# Altium schematic symbol library Kintex_SDR.SchLib: 48 symbols
Pins are listed as number, name and electrical type; pins without a type are passive.

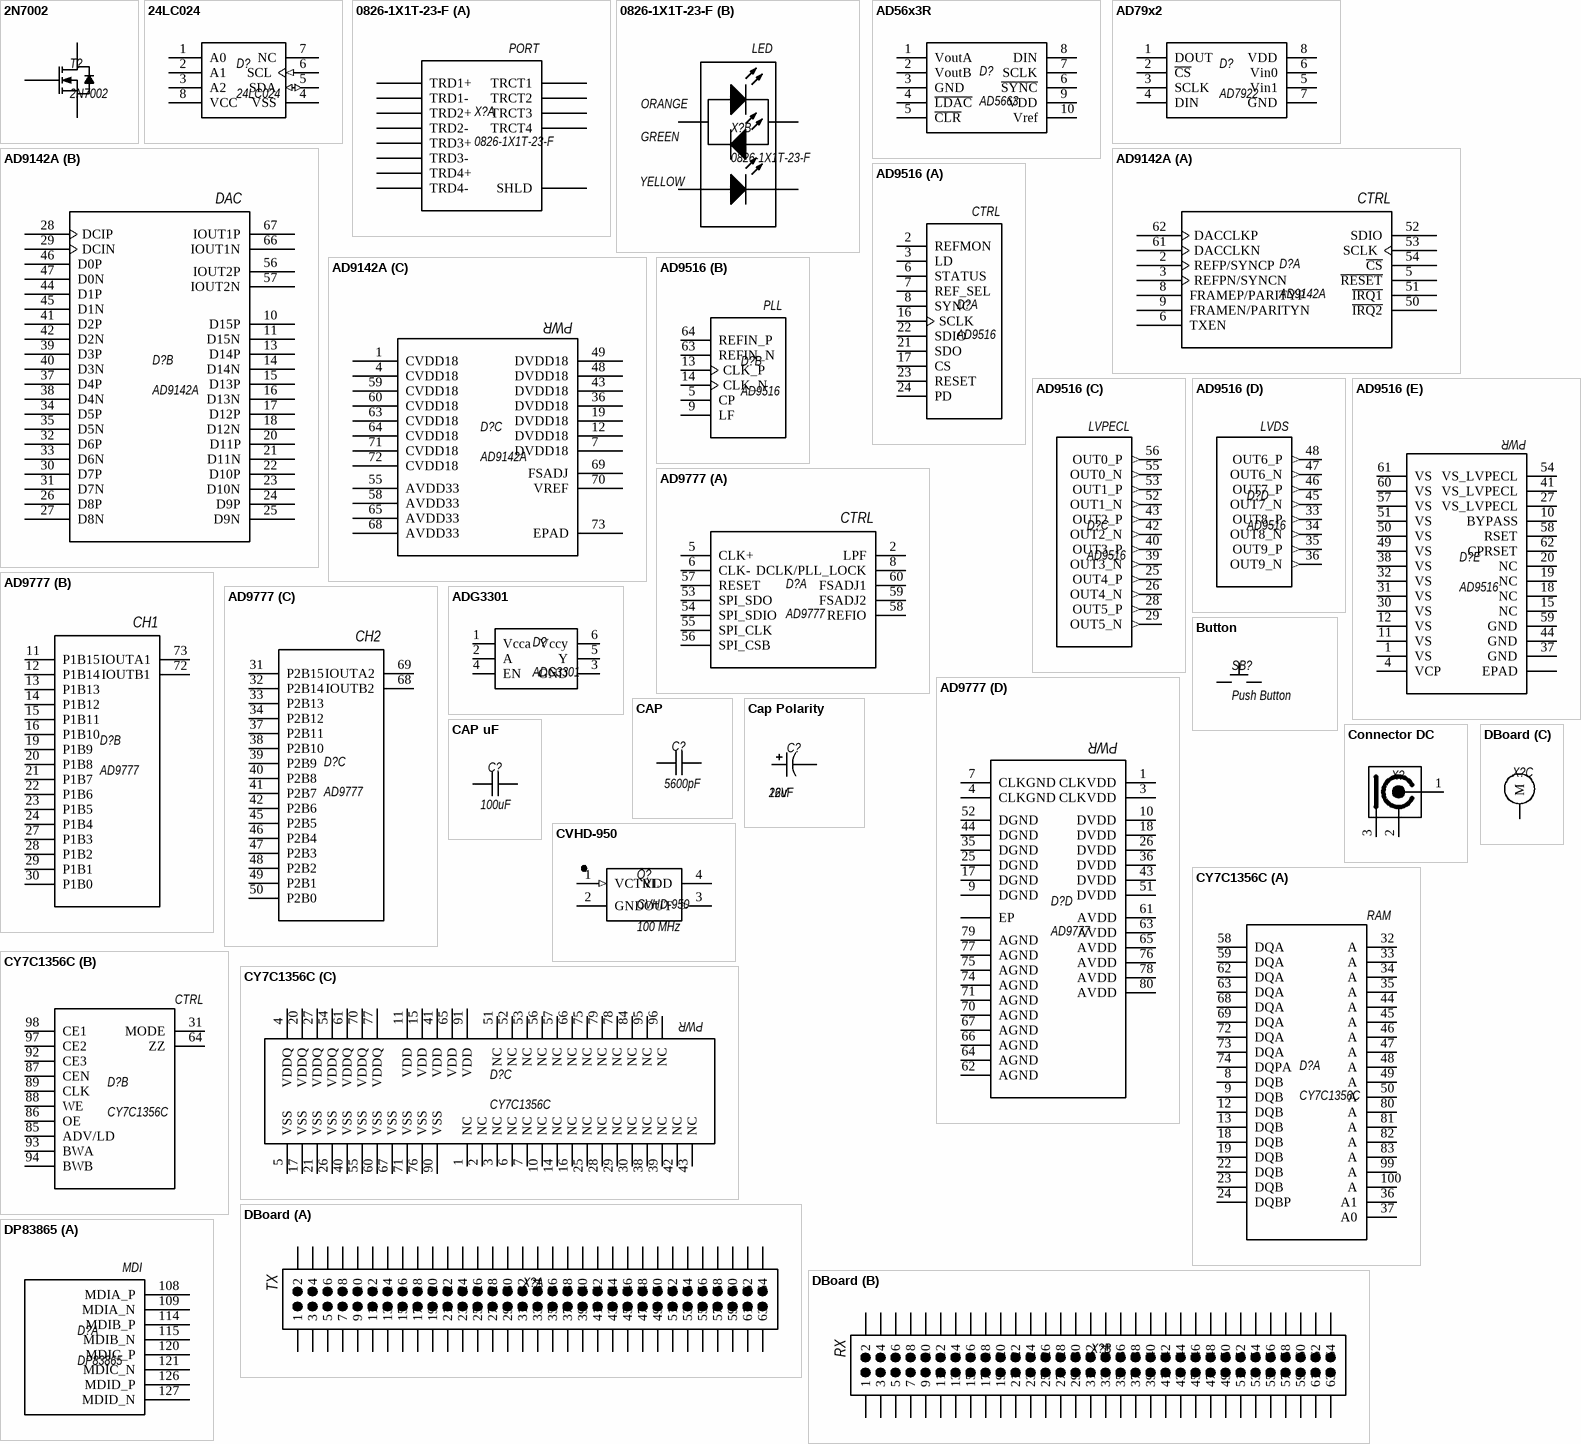
[diagram p0: symbols 2N7002 to DP83865]

## 2N7002
designator T?
N-Channel MOSFET 2N7002; Channel Resistance: 5Ohm; Current: 300mA; Power Dissipation: 0.83W; Type: SOT-23; Voltage: 60V; Name: 2N7002; Package: SOT-23
footprint SOT-23
pins: 1 G, 2 S, 3 D

## 24LC024
designator D?
I2C EEPROM; Manufacturer: Microchip; Capacity: 2kbit; Max Clock: 400 kHz; Voltage: 2.5-5.5V; Name: 24LC024; Package: SOIC-8; Type: I2C EEPROM
footprint SOIC_SN8
pins: 1 A0, 2 A1, 3 A2, 4 VSS (power), 5 SDA (io), 6 SCL (in), 7 NC, 8 VCC (power)

## 0826-1X1T-23-F
designator X?
Gigabit Ethernet Single Port with LEDs; Name: 0826-1X1T-23-F; Type: Gigabit Ethernet Single Port with LEDs
footprint 0826-1X1T-23-F (Gigabit Ethernet Single Port MagJack® with LEDs)
part A pins: 0 SHLD, 1 TRCT3, 2 TRD3-, 3 TRD3+, 4 TRD2+, 5 TRD2-, 6 TRCT2, 7 TRCT4, 8 TRD4+, 9 TRD4-, 10 TRD1-, 11 TRD1+, 12 TRCT1
part B pins: 13 LED1, 14, 15, 16 LED2
part A text: PORT
part B text: LED; ORANGE; GREEN; YELLOW

## AD56x3R
designator D?, comment AD5663
Dual 12-/14-/16-Bit nanoDAC; Manufacturer: Analog Device; High speed serial interface: SPI®/QSPI™/MICROWIRE™/DSP compatibl; Name: AD5663RBRMZ-5; settling time: 4.5 μs maximum; Type: Dual 12-/14-/16-Bit nanoDAC with 5 ppm/°C On-Chip Reference; Voltage: 2.7 V to 5.5 V; Package: MSOP-10
footprint MSOP-10 (MSOP, 10-Leads)
pins: 1 VoutA, 2 VoutB, 3 GND, 4 ~{LDAC}, 5 ~{CLR}, 6 ~{SYNC}, 7 SCLK, 8 DIN, 9 VDD, 10 Vref

## AD79x2
designator D?, comment AD7922
1 MSPS, 10-/12-Bit ADC; Manufacturer: Analog Device; Fast throughput rate: 1MHz; High speed serial interface: SPI®/QSPI™/MICROWIRE™/DSP compatible; Name: AD7922ARM; Type: 2-Channel, 2.35 V to 5.25 V,1 MSPS, 10-/12-Bit ADC; Voltage: 2.35 V to 5.25 V; Package: MSOP-8
footprint MSOP-8 (MSOP, 8-Leads)
pins: 1 DOUT, 2 ~{CS}, 3 SCLK, 4 DIN, 5 Vin1, 6 Vin0, 7 GND, 8 VDD

## AD9142A
designator D?
Dual, 16-Bit, 1600 MSPS, TxDAC+   Digital-to-Analog Converter; Name: AD9142ABCPZ; Power Dissipation: 1.5 W at 1.25 GSPS; Resolution: 16 bit; Sampling Frequency: 575 MHz; Voltage: 3.3V, 1.8V; Package: 72-lead LFCSP; Temperature Range: −40°C to +85°C; Type: Dual, 16-Bit, 1600 MSPS, TxDAC+   Digital-to-Analog Converter
footprint LFCSP_VQ-72 (QFN, 72-Leads, Body 10,00x10,00mm, Pitch 0,50mm, Thermal Pad 6,00x6,00mm, IPC Medium Density)
part A pins: 2 REFP/SYNCP, 3 REFPN/SYNCN, 5 ~{RESET}, 6 TXEN, 8 FRAMEP/PARITYP, 9 FRAMEN/PARITYN, 50 ~{IRQ2}, 51 ~{IRQ1}, 52 SDIO, 53 SCLK, 54 ~{CS}, 61 DACCLKN, 62 DACCLKP
part B pins: 10 D15P, 11 D15N, 13 D14P, 14 D14N, 15 D13P, 16 D13N, 17 D12P, 18 D12N, 20 D11P, 21 D11N, 22 D10P, 23 D10N, 24 D9P, 25 D9N, 26 D8P, 27 D8N, 28 DCIP, 29 DCIN, 30 D7P, 31 D7N, 32 D6P, 33 D6N, 34 D5P, 35 D5N, 37 D4P, 38 D4N, 39 D3P, 40 D3N, 41 D2P, 42 D2N, 44 D1P, 45 D1N, 46 D0P, 47 D0N, 56 IOUT2P, 57 IOUT2N, 66 IOUT1N, 67 IOUT1P
part C pins: 1 CVDD18, 4 CVDD18, 7 DVDD18, 12 DVDD18, 19 DVDD18, 36 DVDD18, 43 DVDD18, 48 DVDD18, 49 DVDD18, 55 AVDD33, 58 AVDD33, 59 CVDD18, 60 CVDD18, 63 CVDD18, 64 CVDD18, 65 AVDD33, 68 AVDD33, 69 FSADJ, 70 VREF, 71 CVDD18, 72 CVDD18, 73 EPAD
part A text: CTRL
part B text: DAC
part C text: PWR

## AD9516
designator D?
14-Output Clock Generator; Input Frequency: 0 to 2.4 GHz; Input Sensitivity: 150 mV p-p; Name: AD9516-4; Output Frequency, Maximum: 2950 MHz; Voltage: 2.5 V to 3.3 V; Package: LFSCSP-64; Temperature Range: −40°C to +85°C; Type: 14-Output Clock Generator
footprint LFCSP-64
part A pins: 2 REFMON, 3 LD, 6 STATUS, 7 REF_SEL, 8 SYNC, 16 SCLK, 17 CS, 21 SDO, 22 SDIO, 23 RESET, 24 PD
part B pins: 5 CP, 9 LF, 13 CLK_P, 14 CLK_N, 63 REFIN_N, 64 REFIN_P
part C pins: 25 OUT4_P (out), 26 OUT4_N (out), 28 OUT5_P (out), 29 OUT5_N (out), 39 OUT3_N (out), 40 OUT3_P (out), 42 OUT2_N (out), 43 OUT2_P (out), 52 OUT1_N (out), 53 OUT1_P (out), 55 OUT0_N (out), 56 OUT0_P (out)
part D pins: 33 OUT8_P (out), 34 OUT8_N (out), 35 OUT9_P (out), 36 OUT9_N (out), 45 OUT7_N (out), 46 OUT7_P (out), 47 OUT6_N (out), 48 OUT6_P (out)
part E pins: 0 EPAD (power), 1 VS (power), 4 VCP (power), 10 BYPASS, 11 VS (power), 12 VS (power), 15 NC, 18 NC, 19 NC, 20 NC, 27 VS_LVPECL (power), 30 VS (power), 31 VS (power), 32 VS (power), 37 GND (power), 38 VS (power), 41 VS_LVPECL (power), 44 GND (power), 49 VS (power), 50 VS (power), 51 VS (power), 54 VS_LVPECL (power), 57 VS (power), 58 RSET, 59 GND (power), 60 VS (power), 61 VS (power), 62 CPRSET
part A text: CTRL
part B text: PLL
part C text: LVPECL
part D text: LVDS
part E text: PWR

## AD9777
designator D?
16-Bit, 160 MSPS  D/A Converter; Name: AD9777BSV; Power Dissipation: typical 1.2 W @ 3.3 V; Resolution: 16 bit; Sampling Frequency: 160 MHz; Type: 16-Bit, 160 MSPS 2x/4x/8x Interpolating Dual TxDAC+® D/A Converter; Voltage: Single 3.3 V; Package: 80-pin TQFP; Temperature Range: −40°C to +85°C
footprint TQFP-80-EP (TQFP, 80-Leads)
part A pins: 2 LPF, 5 CLK+, 6 CLK-, 8 DCLK/PLL_LOCK, 53 SPI_SDO, 54 SPI_SDIO, 55 SPI_CLK, 56 SPI_CSB, 57 RESET, 58 REFIO, 59 FSADJ2, 60 FSADJ1
part B pins: 11 P1B15, 12 P1B14, 13 P1B13, 14 P1B12, 15 P1B11, 16 P1B10, 19 P1B9, 20 P1B8, 21 P1B7, 22 P1B6, 23 P1B5, 24 P1B4, 27 P1B3, 28 P1B2, 29 P1B1, 30 P1B0, 72 IOUTB1, 73 IOUTA1
part C pins: 31 P2B15, 32 P2B14, 33 P2B13, 34 P2B12, 37 P2B11, 38 P2B10, 39 P2B9, 40 P2B8, 41 P2B7, 42 P2B6, 45 P2B5, 46 P2B4, 47 P2B3, 48 P2B2, 49 P2B1, 50 P2B0, 68 IOUTB2, 69 IOUTA2
part D pins: 0 EP, 1 CLKVDD, 3 CLKVDD, 4 CLKGND, 7 CLKGND, 9 DGND, 10 DVDD, 17 DGND, 18 DVDD, 25 DGND, 26 DVDD, 35 DGND, 36 DVDD, 43 DVDD, 44 DGND, 51 DVDD, 52 DGND, 61 AVDD, 62 AGND, 63 AVDD, 64 AGND, 65 AVDD, 66 AGND, 67 AGND, 70 AGND, 71 AGND, 74 AGND, 75 AGND, 76 AVDD, 77 AGND, 78 AVDD, 79 AGND, 80 AVDD
part A text: CTRL
part B text: CH1
part C text: CH2
part D text: PWR

## ADG3301
designator D?
Bidirectional Logic Level Translator; Voltage: 1.15 V to 5.5 V; Name: ADG3301; Package: SOT-23-6
footprint SOT-23-6 (SOT23, 6-Leads)
pins: 1 Vcca, 2 A, 3 GND, 4 EN, 5 Y, 6 Vccy

## Button
designator SB?, comment Push Button
Tactile Switch (SMT); Manufacturer: Omron; Current: 50mA; Name: B3FS-1000; Operating  force: 2.55 N; Plunger  color: Black; Voltage: 24V; Package: 6x6 SMT; Series: B3FS-1000; Type: Tactile Switch (SMT)
footprint B3FS-1000 (Push Button 6x6 mm)
pins: 1, 2

## CAP
designator C?  value 5600pF  (hidden comment: *)
SMD Capacitor; Manufacturer: Murata; Material: X7R; Tolerance: 10%; Voltage: 50V; Type: Ceramic Capacitor
footprint C0402 (Chip Capacitor, Body 1.0x0.5mm, IPC High Density)
footprint C0603 (Chip Capacitor, Body 1.6x0.8mm, IPC High Density)
footprint C0805 (Chip Capacitor, Body 2.0x1.3mm, IPC High Density)
footprint C1206
pins: 1, 2

## Cap Polarity
designator C?  value 22uF  Voltage: 16V  (hidden comment: *)
Tantalum Polarity SMD Capacitor; Manufacturer: Tecap; Name: Tantalum Capacitor; Tolerance: 10%; Type: Tantalum Polarity Cap; Temperature Range: -55…85°C
footprint capacitor C
footprint Tantalum_D
footprint Tantalum_C
pins: 1, 2

## CAP uF
designator C?  value 100uF  (hidden comment: *)
SMD Capacitor; Manufacturer: Murata; Material: X5R; Tolerance: 20%; Voltage: 6.3V; Type: Ceramic Capacitor
footprint C1210 (Chip Capacitor, Body 3.2x2.5mm, IPC High Density)
footprint C2220 (Chip Capacitor)
footprint C0805 (Chip Capacitor, Body 2.0x1.3mm, IPC High Density)
pins: 1, 2

## Connector DC
designator X?  (value not drawn)
DC Power Connector 6mm; Current: 5A; Voltage: 12V; Name: DC Power Connector; Package: Trough Hole; Type: 2.5mm*5.7mm
footprint DC_CONNECTOR
pins: 1 RF "Signal Pin", 2 GND (power), 3 GND

## CVHD-950
designator Q?  Frequency: 100 MHz
Crystal Oscillator; Input Current: 15mA Typical; Name: CVHD-950-100.000; Output: Unsymmetry; Output Current: ±24mA Max; Voltage: 3.3V ±0.3V; Package: CVHD-950; Temperature Range: 0°C to +70°C
footprint CVHD-950
pins: 1 VCTRL (in), 2 GND, 3 OUT (out), 4 VDD

## CY7C1356C
designator D?
Pipelined SRAM with NoBL; Name: CY7C1356C-250AXC; Type: 9-Mbit (512 K × 18); Voltage: 3.3 V; Package: 100-pin TQFP (14 × 20 × 1.4 mm)
footprint TQFP-100 (100-pin TQFP (14x20x1.4 mm))
part A pins: 8 DQB, 9 DQB, 12 DQB, 13 DQB, 18 DQB, 19 DQB, 22 DQB, 23 DQB, 24 DQBP, 32 A, 33 A, 34 A, 35 A, 36 A1, 37 A0, 44 A, 45 A, 46 A, 47 A, 48 A, 49 A, 50 A, 58 DQA, 59 DQA, 62 DQA, 63 DQA, 68 DQA, 69 DQA, 72 DQA, 73 DQA, 74 DQPA, 80 A, 81 A, 82 A, 83 A, 99 A, 100 A
part B pins: 31 MODE, 64 ZZ, 85 ADV/LD, 86 OE, 87 CEN, 88 WE, 89 CLK, 92 CE3, 93 BWA, 94 BWB, 97 CE2, 98 CE1
part C pins: 1 NC, 2 NC, 3 NC, 4 VDDQ, 5 VSS, 6 NC, 7 NC, 10 NC, 11 VDD, 14 NC, 15 VDD, 16 NC, 17 VSS, 20 VDDQ, 21 VSS, 25 NC, 26 VSS, 27 VDDQ, 28 NC, 29 NC, 30 NC, 38 NC, 39 NC, 40 VSS, 41 VDD, 42 NC, 43 NC, 51 NC, 52 NC, 53 NC, 54 VDDQ, 55 VSS, 56 NC, 57 NC, 60 VSS, 61 VDDQ, 65 VDD, 66 NC, 67 VSS, 70 VDDQ, 71 VSS, 75 NC, 76 VSS, 77 VDDQ, 78 NC, 79 NC, 84 NC, 90 VSS, 91 VDD, 95 NC, 96 NC
part A text: RAM
part B text: CTRL
part C text: PWR

## DBoard
designator X?  (value not drawn)
USRP DBoard; Name: 1.00mm Pitch Mezzanine 714362164
footprint DBoard (USRP DBoard)
part A pins: 1, 2, 3, 4, 5, 6, 7, 8, 9, 10, 11, 12, 13, 14, 15, 16, 17, 18, 19, 20, 21, 22, 23, 24, 25, 26, 27, 28, 29, 30, 31, 32, 33, 34, 35, 36, 37, 38, 39, 40, 41, 42, 43, 44, 45, 46, 47, 48, 49, 50, 51, 52, 53, 54, 55, 56, 57, 58, 59, 60, 61, 62, 63, 64
part B pins: 65 1, 66 2, 67 3, 68 4, 69 5, 70 6, 71 7, 72 8, 73 9, 74 10, 75 11, 76 12, 77 13, 78 14, 79 15, 80 16, 81 17, 82 18, 83 19, 84 20, 85 21, 86 22, 87 23, 88 24, 89 25, 90 26, 91 27, 92 28, 93 29, 94 30, 95 31, 96 32, 97 33, 98 34, 99 35, 100 36, 101 37, 102 38, 103 39, 104 40, 105 41, 106 42, 107 43, 108 44, 109 45, 110 46, 111 47, 112 48, 113 49, 114 50, 115 51, 116 52, 117 53, 118 54, 119 55, 120 56, 121 57, 122 58, 123 59, 124 60, 125 61, 126 62, 127 63, 128 64
part C pins: 0 M
part A text: TX
part B text: RX

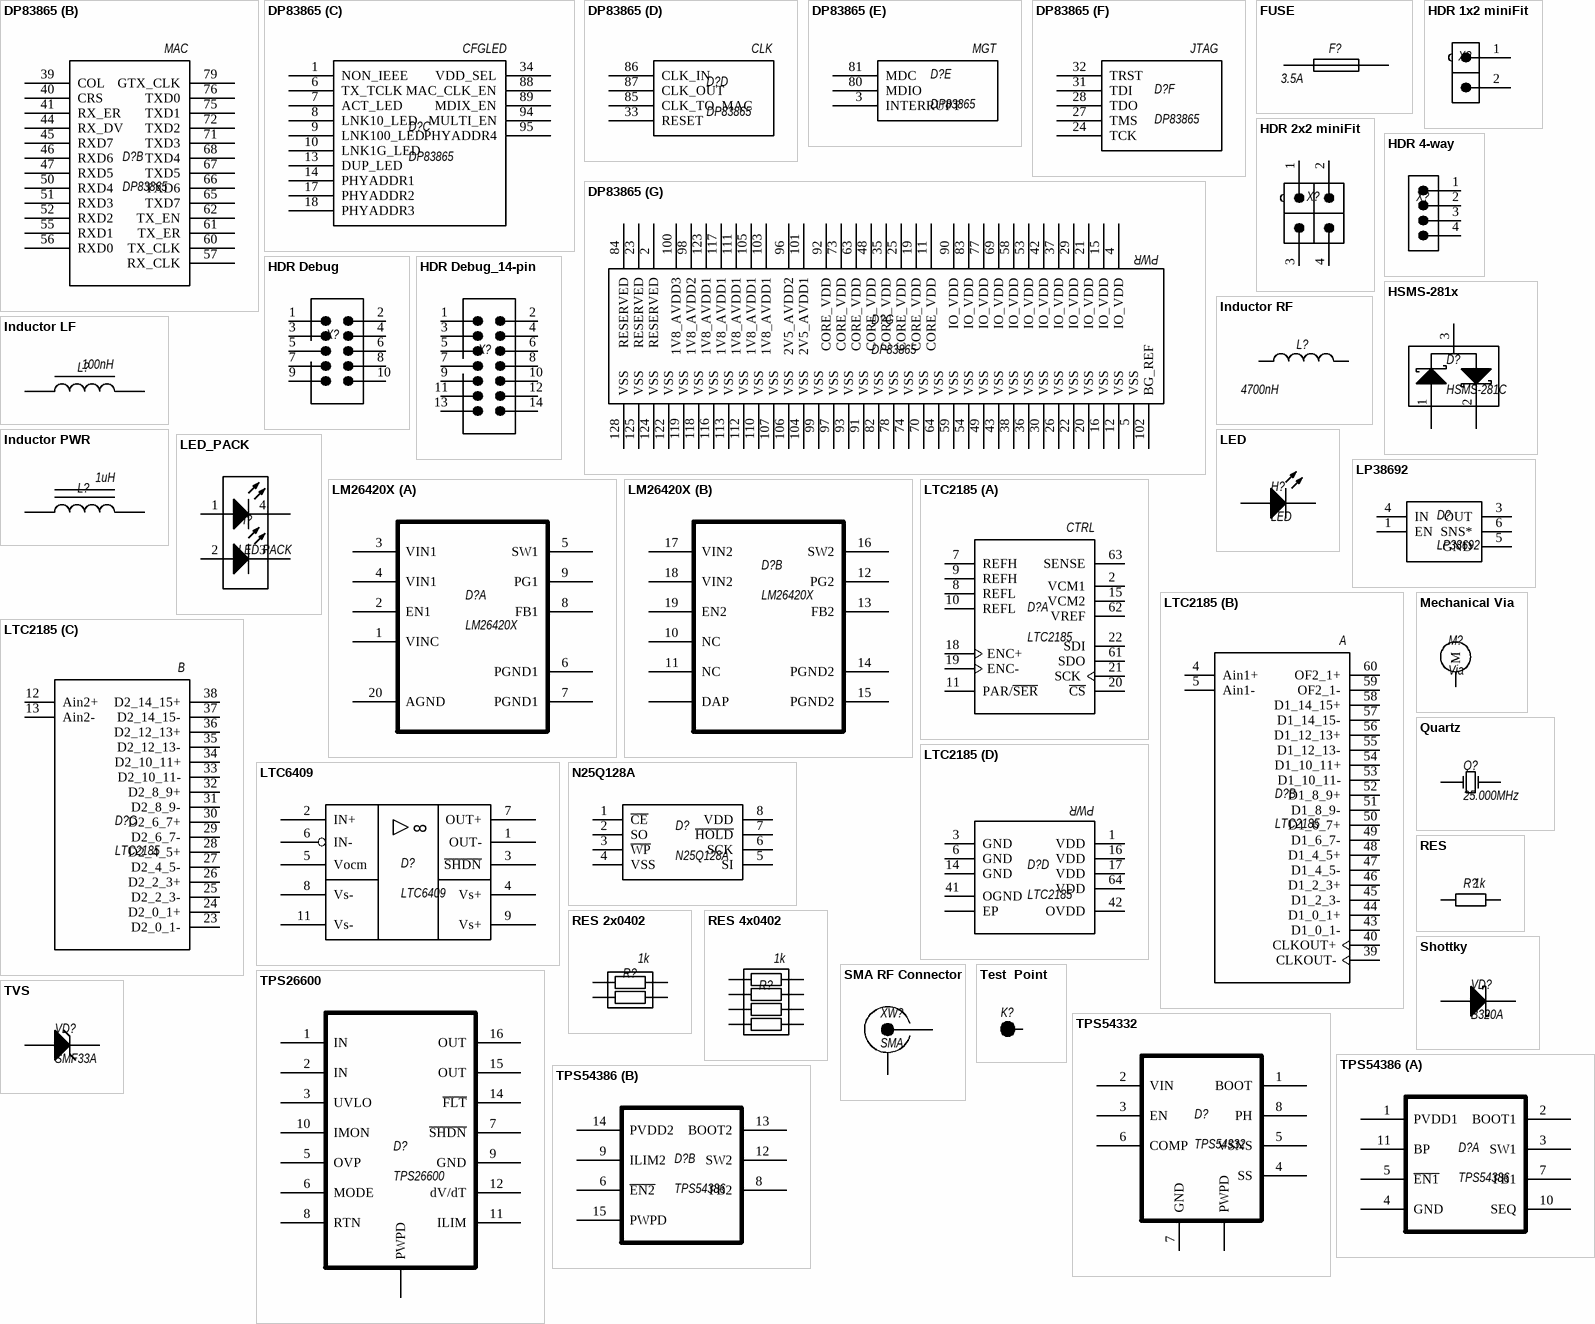
[diagram p1: symbols DP83865 to TVS]

## DP83865
designator D?
10/100/1000 Ethernet Physical Layer; Name: DP83865DVH; Package: LQFP-128; Type: 0/100/1000 Ethernet Physical Layer
footprint PQFP-128 (PQFP, 128-Leads, Body 14,00x20,00mm, Pitch 0,50mm, IPC Medium Density)
part A pins: 108 MDIA_P, 109 MDIA_N, 114 MDIB_P, 115 MDIB_N, 120 MDIC_P, 121 MDIC_N, 126 MDID_P, 127 MDID_N
part B pins: 39 COL, 40 CRS, 41 RX_ER, 44 RX_DV, 45 RXD7, 46 RXD6, 47 RXD5, 50 RXD4, 51 RXD3, 52 RXD2, 55 RXD1, 56 RXD0, 57 RX_CLK, 60 TX_CLK, 61 TX_ER, 62 TX_EN, 65 TXD7, 66 TXD6, 67 TXD5, 68 TXD4, 71 TXD3, 72 TXD2, 75 TXD1, 76 TXD0, 79 GTX_CLK
part C pins: 1 NON_IEEE, 6 TX_TCLK, 7 ACT_LED, 8 LNK10_LED, 9 LNK100_LED, 10 LNK1G_LED, 13 DUP_LED, 14 PHYADDR1, 17 PHYADDR2, 18 PHYADDR3, 34 VDD_SEL, 88 MAC_CLK_EN, 89 MDIX_EN, 94 MULTI_EN, 95 PHYADDR4
part D pins: 33 RESET, 85 CLK_TO_MAC, 86 CLK_IN, 87 CLK_OUT
part E pins: 3 INTERRUPT, 80 MDIO, 81 MDC
part F pins: 24 TCK, 27 TMS, 28 TDO, 31 TDI, 32 TRST
part G pins: 2 RESERVED, 4 IO_VDD, 5 VSS, 11 CORE_VDD, 12 VSS, 15 IO_VDD, 16 VSS, 19 CORE_VDD, 20 VSS, 21 IO_VDD, 22 VSS, 23 RESERVED, 25 CORE_VDD, 26 VSS, 29 IO_VDD, 30 VSS, 35 CORE_VDD, 36 VSS, 37 IO_VDD, 38 VSS, 42 IO_VDD, 43 VSS, 48 CORE_VDD, 49 VSS, 53 IO_VDD, 54 VSS, 58 IO_VDD, 59 VSS, 63 CORE_VDD, 64 VSS, 69 IO_VDD, 70 VSS, 73 CORE_VDD, 74 VSS, 77 IO_VDD, 78 VSS, 82 VSS, 83 IO_VDD, 84 RESERVED, 90 IO_VDD, 91 VSS, 92 CORE_VDD, 93 VSS, 96 2V5_AVDD2, 97 VSS, 98 1V8_AVDD2, 99 VSS, 100 1V8_AVDD3, 101 2V5_AVDD1, 102 BG_REF, 103 1V8_AVDD1, 104 VSS, 105 1V8_AVDD1, 106 VSS, 107 VSS, 110 VSS, 111 1V8_AVDD1, 112 VSS, 113 VSS, 116 VSS, 117 1V8_AVDD1, 118 VSS, 119 VSS, 122 VSS, 123 1V8_AVDD1, 124 VSS, 125 VSS, 128 VSS
part A text: MDI
part B text: MAC
part C text: CFGLED
part D text: CLK
part E text: MGT
part F text: JTAG
part G text: PWR

## FUSE
designator F?  Current: 3.5A  (hidden comment: *)
Chip SMD Fuse; Name: Fast Fuse; Type: Fast Chip SMD Fuse; Voltage: 125V; Package: SMD Omni Block
footprint Fuse
pins: 1, 2

## HDR 1x2 miniFit
designator X?, comment miniFit  (value not drawn)
1x2 miniFit DC Power Connector; Current: 5A; Name: Mini-Fit Power Connector; Voltage: 12V; Type: 1x2
footprint 1x2 PWR_HDR
pins: 1, 2

## HDR 2x2 miniFit
designator X?, comment miniFit  (value not drawn)
2x2 miniFit DC Power Connector; Current: 5A; Name: Mini-Fit Power Connector; Voltage: 12V; Type: 2x2
footprint 2x2 PWR_HDR
pins: 1, 2, 3, 4

## HDR 4-way
designator X?  (value not drawn)
4-way Angle PCB Header; Pitch: 2.54mm; Name: Header; Package: Through Hole; Type: Right Angle
footprint Right Angle Male Header (4-Way 2.54mm Right Angle Male Header)
pins: 1 GND, 2 VREF, 3 GND, 4 TMS

## HDR Debug
designator X?  (value not drawn)
10-pin 2.54mm pitch PCB Header; Name: JTAG Header 5x2; Type: Two Row Male Header 100mil Step
footprint JTAG Header (10-pin 2.54mm pitch PCB Header)
pins: 1 GND, 2 VREF, 3 GND, 4 TMS, 5 GND, 6 TCK, 7 GND, 8 TDO, 9 GND, 10 TDI

## HDR Debug_14-pin
designator X?  (value not drawn)
14-pin 2.54mm pitch PCB Header; Name: JTAG Header 7x2; Type: Two Row Male Header 100mil Step
footprint JTAG Header 14-pin (14-pin 2.54mm pitch PCB Header)
pins: 1 GND, 2 VREF, 3 GND, 4 TMS, 5 GND, 6 TCK, 7 GND, 8 TDO, 9 GND, 10 TDI, 11 GND, 12 NC, 13 GND, 14 NC

## HSMS-281x
designator D?, comment HSMS-281C
RF Schottky Barrier Diodes; Name: HSMS-281C; Package: SOT-323
footprint SOT-323
pins: 1 A, 2 K, 3 K

## Inductor LF
designator L?  value 100nH  (hidden comment: *)
Inductor Power Lines; Manufacturer: Murata; Name: LQH32PN1R0NNC; Current: 2500mA; Tolerance: 5%; Frequency: 100MHz; Temperature Range: -25ºC to 85ºC; Series: LQH
footprint L1206_Murata
footprint L1210_Murata LQH (Power Lines Inductor)
footprint L1210_Murata
footprint L0805_Murata_LQG
pins: 1, 2

## Inductor PWR
designator L?  value 1uH  (hidden comment: *)
Magnetic-Core Inductor; Manufacturer: Coilcraft; Name: MSS1038; Current: 5A; Tolerance: ±30%; Temperature Range: -40ºC to 125ºC
footprint Coilcraft MSS1038
footprint Coilcraft MSS1048
footprint XAL6060-223
footprint MS612PNB
footprint Murata 4600/4500 Series Inductor
footprint XAL4020
footprint XAL4030
footprint XAL5050
pins: 1, 2

## Inductor RF
designator L?  value 4700nH  (hidden comment: *)
Chip SMD Inductor; Manufacturer: Murata; Current: 250mA; Frequency: 350MHz; Name: LQG21F; Tolerance: 5%; Series: LQG; Temperature Range: -25…85°C
footprint L0402 (Chip Capacitor, Body 1.0x0.5mm, IPC High Density)
footprint L0603 (Chip Capacitor, Body 1.6x0.8mm, IPC High Density)
footprint L0805 (Chip Capacitor, Body 2.0x1.3mm, IPC High Density)
footprint L1812
pins: 1, 2

## LED
designator H?
Typical RED, GREEN, YELLOW, AMBER GaAs LED; Manufacturer: Kingbright; P/N: APHHS1005QBC/D; Color: Blue; Name: LED; Package: 0402
footprint LED_0402_Blue
footprint LED_0805_Green
pins: 1 K, 2 A

## LED_PACK
designator H?, comment LED PACK
LED Pack For Front Panel; Manufacturer: Kingbright; Current: 25mA; P/N: WP934EB/2GD; Color: Green; Package: Throu-Hole; Type: 2-level PCB-mount LED-indicator
footprint LED_PACK
pins: 1 A, 2 A, 3 K, 4 K

## LM26420X
designator D?
Synchronous  DC-DC Converter; Current: 2A; Frequency: 2.2MHz; Input Voltage: 3 V to 5.5 V; Name: LM26420X; Package: HTSSOP 20; Temperature Range: −40°C to + 150°C; Type: Synchronous DC-DC Converter
footprint HTSSOP-20
part A pins: 1 VINC, 2 EN1, 3 VIN1, 4 VIN1, 5 SW1, 6 PGND1, 7 PGND1, 8 FB1, 9 PG1, 20 AGND
part B pins: 10 NC, 11 NC, 12 PG2, 13 FB2, 14 PGND2, 15 PGND2, 16 SW2, 17 VIN2, 18 VIN2, 19 EN2, 21 DAP

## LP38692
designator D?
Linear Regulator
footprint SOT-223-5
pins: 1 EN, 3 OUT, 4 IN, 5 GND, 6 SNS*

## LTC2185
designator D?
Dual 16-Bit, 125Msps  Low Power 3V ADC; Name: LTC2185CUP#PBF-ND; Power Dissipation: 370mW; Resolution: 16 Bits; Sampling Frequency: 125 MHz; Type: Dual 16-Bit, 105Msps  Low Power 3V ADC; Voltage: Single 1.8V Supply; Package: 64-Pin (9mm × 9mm) QFN; Temperature Range: 0°C to 70°C
footprint QFN-64
part A pins: 2 VCM1, 7 REFH, 8 REFL, 9 REFH, 10 REFL, 11 PAR/~{SER}, 15 VCM2, 18 ENC+, 19 ENC-, 20 ~{CS}, 21 SCK, 22 SDI, 61 SDO, 62 VREF, 63 SENSE
part B pins: 4 Ain1+, 5 Ain1-, 39 CLKOUT-, 40 CLKOUT+, 43 D1_0_1-, 44 D1_0_1+, 45 D1_2_3-, 46 D1_2_3+, 47 D1_4_5-, 48 D1_4_5+, 49 D1_6_7-, 50 D1_6_7+, 51 D1_8_9-, 52 D1_8_9+, 53 D1_10_11-, 54 D1_10_11+, 55 D1_12_13-, 56 D1_12_13+, 57 D1_14_15-, 58 D1_14_15+, 59 OF2_1-, 60 OF2_1+
part C pins: 12 Ain2+, 13 Ain2-, 23 D2_0_1-, 24 D2_0_1+, 25 D2_2_3-, 26 D2_2_3+, 27 D2_4_5-, 28 D2_4_5+, 29 D2_6_7-, 30 D2_6_7+, 31 D2_8_9-, 32 D2_8_9+, 33 D2_10_11-, 34 D2_10_11+, 35 D2_12_13-, 36 D2_12_13+, 37 D2_14_15-, 38 D2_14_15+
part D pins: 0 EP (power), 1 VDD (power), 3 GND (power), 6 GND (power), 14 GND (power), 16 VDD (power), 17 VDD (power), 41 OGND (power), 42 OVDD (power), 64 VDD (power)
part A text: CTRL
part B text: A
part C text: B
part D text: PWR

## LTC6409
designator D?
Differential Amplifier/ADC   Driver; Manufacturer: Linear Technology; Name: LTC6409CUDB#TRMPBF; Voltage: 2.7V to 5.25V; Type: Very high speed, low distortion, differential amplifier.; Package: 10-Lead 3mm ×2mm ×0.75mm QFN; Temperature Range: –40°C to 125°C
footprint QFN-10 (QFN-10 2x3 mm)
pins: 1 OUT-, 2 IN+, 3 ~{SHDN}, 4 Vs+, 5 Vocm, 6 IN-, 7 OUT+, 8 Vs-, 9 Vs+, 11 Vs-

## Mechanical Via
designator M?, comment Via
Mechanical Via
footprint Mechanical_Via
pins: 0 M

## N25Q128A
designator D?
SPI Flash; Manufacturer: Micron Technology; Device Density: 128 Mbit; Name: N25Q128A13ESE40; Operating Frequency: 50 MHz; Voltage: 2.7-3.6V; Package: SOIC; Temperature Range: 0°C to +70°C; Type: SPI Flash
footprint SOIC8-W
pins: 1 ~{CE}, 2 SO, 3 ~{WP}, 4 VSS, 5 SI, 6 SCK, 7 ~{HOLD}, 8 VDD

## Quartz
designator Q?, comment 25.000MHz
Qurtz; Manufacturer: GEYER ELECTRONIC; Name: KX-13T; Tolerance: ± 30 ppm; Frequancy: 25.000MHz
footprint SMT 5x7 (Quartz SMT 5x7)
pins: 1 OSC1, 3 OSC2

## RES
designator R?  value 1k  (hidden comment: *)
SMD Resistor; Name: Chip SMD Resistor; Power: 0.062 Wt; Tolerance: 5%; Temperature Range: -55…155°C
footprint R0402
footprint R0603
footprint R0805
pins: 1, 2

## RES 2x0402
designator R?  value 1k  (hidden comment: *)
Chip Resistor Array; Manufacturer: Panasonic; Name: EXB24V; Number of Resistors: 2; Tolerance: 5%; Type: 0402 Array Convex Terminal; Number of Terminals: 4; Series: EXB
footprint EX24V (Resistor Array 2x0402 0404)
pins: 1, 2, 3, 4

## RES 4x0402
designator R?  value 1k  (hidden comment: *)
Chip Resistor Array; Manufacturer: Panasonic; Name: EXBN8V; Number of Resistors: 4; Tolerance: 5%; Type: 0402 Array Concave Terminal; Number of Terminals: 8; Series: EXB
footprint EXN8V (Resistor Array 4x0402 0804)
pins: 1, 2, 3, 4, 5, 6, 7, 8

## Shottky
designator VD?, comment B320A
Schottky Diode; Name: B320A; Package: SMC
footprint Diode_SMA (DO-214AC)
footprint Diode_SMC (DO-214AB)
pins: 1 K, 2 A

## SMA RF Connector
designator XW?, comment SMA
SMA Male Right-Angle PCM Connector; Manufacturer: Molex; Name: SMA Right Angle PCB Mount RF Connector; P/N: 732512201; Impedance: 50Ohm; Type: SMA Jack, Right Angle; Series: 73251
footprint SMA Angle Female
pins: 0 GND (power), 1 RF "Signal Pin"

## Test  Point
designator K?, comment Test Point  (value not drawn)
footprint Control Point
pins: 1

## TPS26600
designator D?
Industrial eFuse; Current: 2A; Voltage: 60V; Name: TPS26600; Package: 16-Pin SOIC PowerPAD; Temperature Range: −40°C to + 125°C; Type: Industrial eFuse
footprint R-PDSO-G16
pins: 1 IN, 2 IN, 3 UVLO, 5 OVP, 6 MODE, 7 ~{SHDN}, 8 RTN, 9 GND, 10 IMON, 11 ILIM, 12 dV/dT, 14 ~{FLT}, 15 OUT, 16 OUT, 17 PWPD

## TPS54332
designator D?
Step-Down DC-DC Converter; Current: 3.5A; Frequency: 1MHz; Input Voltage: 3.5V to 28V; Name: TPS54332; Package: 8-Pin SOIC PowerPAD; Temperature Range: −40°C to + 150°C; Type: Step-Down DC-DC Converter
footprint R-PDSO-G8 (PowerPAD PLASTIC SMALL OUTLINE)
pins: 1 BOOT, 2 VIN, 3 EN, 4 SS, 5 VSNS, 6 COMP, 7 GND, 8 PH, 9 PWPD

## TPS54386
designator D?
Step-Down DC-DC Converter; Current: 3A; Frequency: 600kHz; Input Voltage: 4.5V to 28V; Number of Output's: 2; Name: TPS54386; Package: HTSSOP-14; Temperature Range: −40°C to + 150°C; Type: Step-Down DC-DC Converter
footprint HTSSOP-14 (4.40 mm ? 5.00 mm 14-Pin HTSSOP)
part A pins: 1 PVDD1, 2 BOOT1, 3 SW1, 4 GND, 5 ~{EN1}, 7 FB1, 10 SEQ, 11 BP
part B pins: 6 ~{EN2}, 8 FB2, 9 ILIM2, 12 SW2, 13 BOOT2, 14 PVDD2, 15 PWPD

## TVS
designator VD?, comment SMF33A
TVS Diode; Manufacturer: Littelfuse; Power: 200W; Voltage: 33V; Name: SMF33A; Package: SOD-123F
footprint SOD-123F
pins: 1 K, 2 A

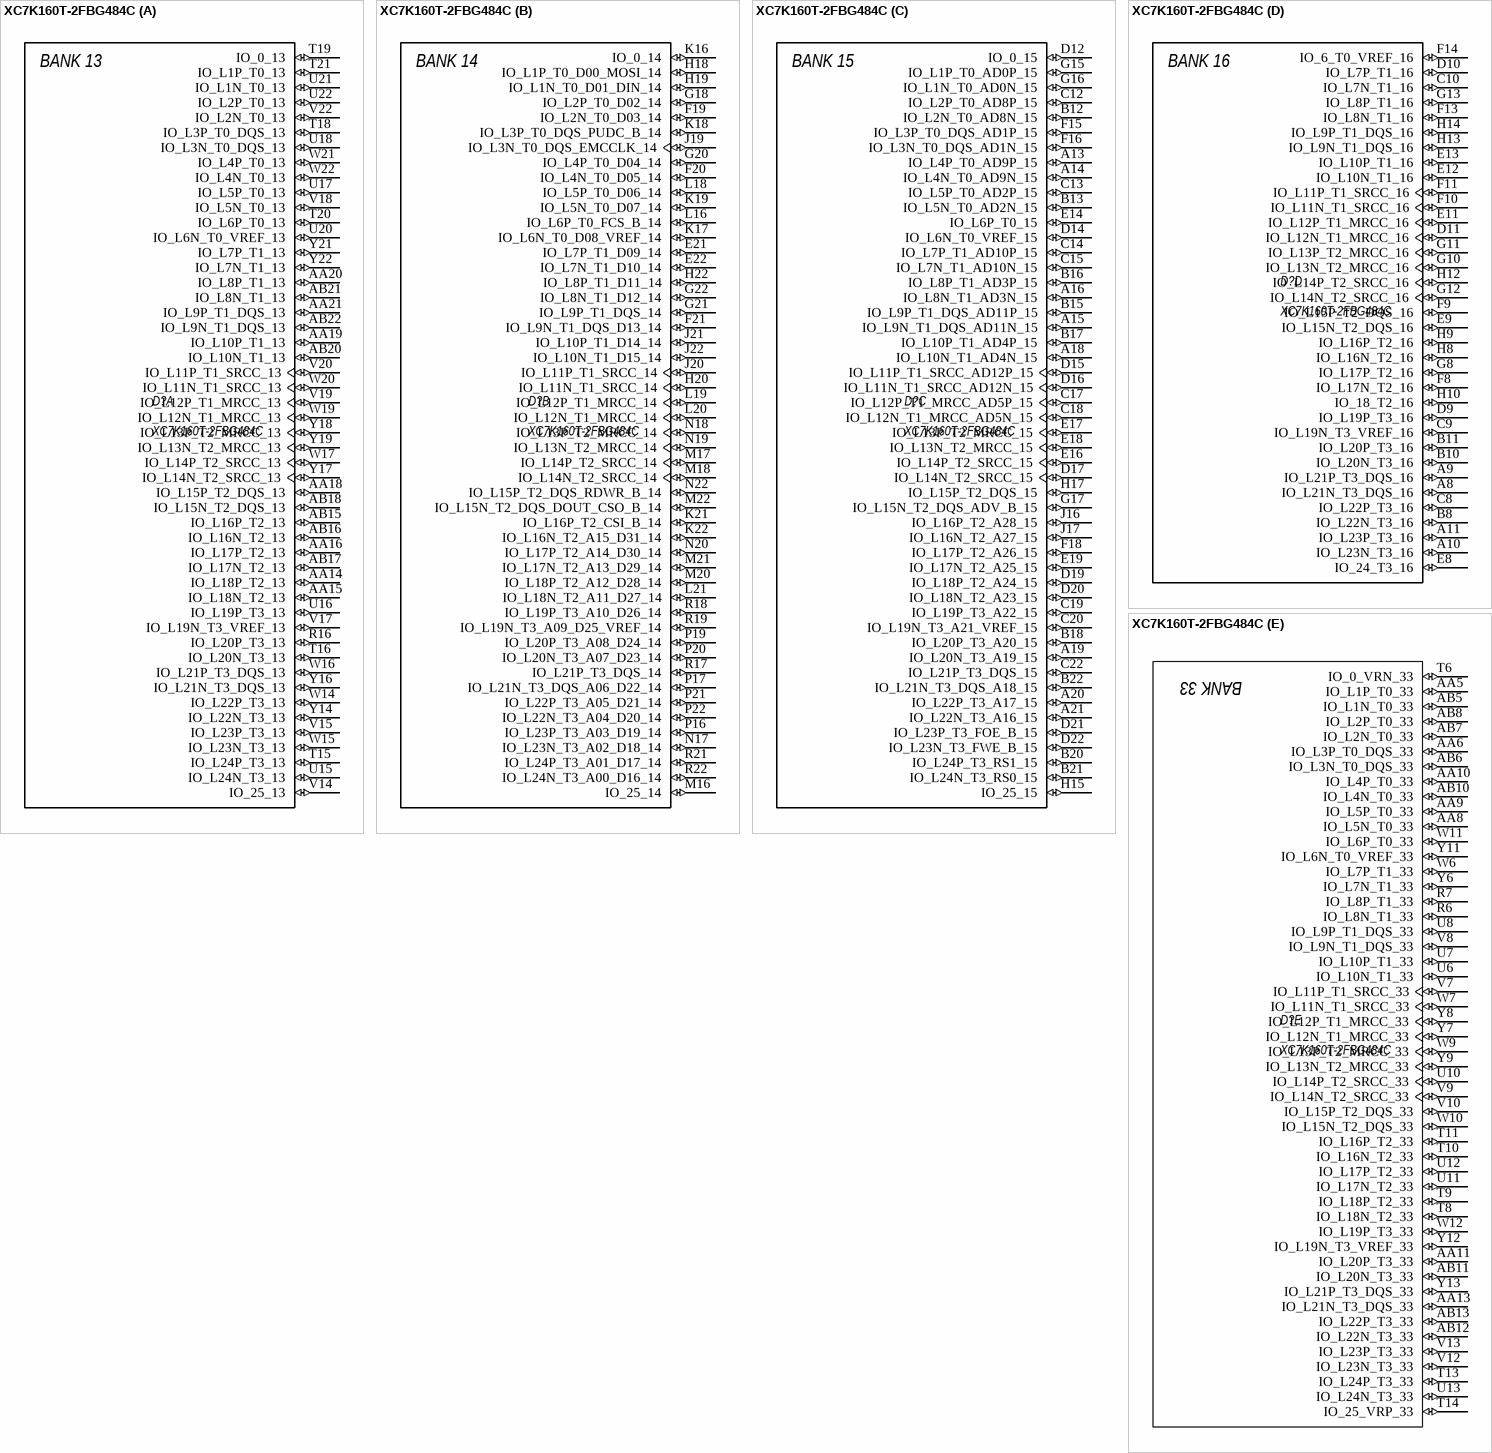
[diagram p2: symbol XC7K160T-2FBG484C]

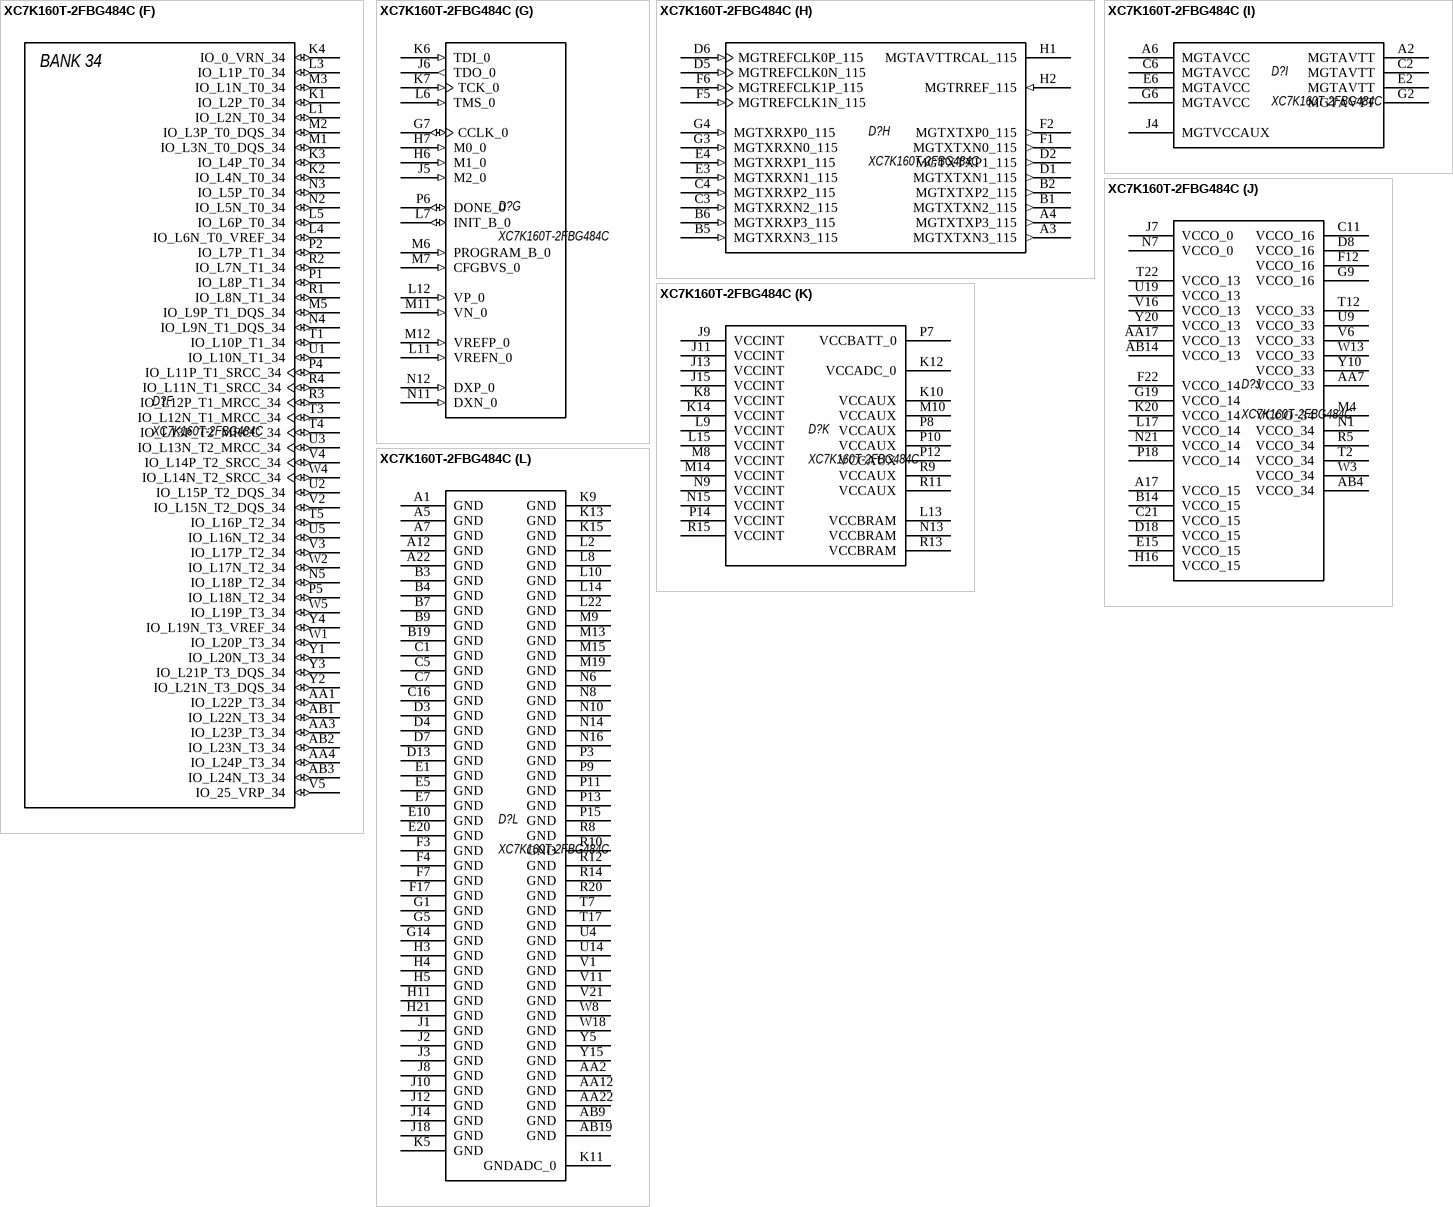
[diagram p3: symbol XC7K160T-2FBG484C]

## XC7K160T-2FBG484C
designator D?
Xilinx 7-Series FPGA; Speed Grade: -2; Manufacturer: Xilinx; Name: XC7K160T-2FBG484C; Series: 7-Series FPGA; Package: 484 Ball FBG
footprint FBG484 (BGA, 484-Leads, Body 23x23mm, Pitch 1mm)
part A pins: AA14 IO_L18P_T2_13 (io), AA15 IO_L18N_T2_13 (io), AA16 IO_L17P_T2_13 (io), AA18 IO_L15P_T2_DQS_13 (io), AA19 IO_L10P_T1_13 (io), AA20 IO_L8P_T1_13 (io), AA21 IO_L9P_T1_DQS_13 (io), AB15 IO_L16P_T2_13 (io), AB16 IO_L16N_T2_13 (io), AB17 IO_L17N_T2_13 (io), AB18 IO_L15N_T2_DQS_13 (io), AB20 IO_L10N_T1_13 (io), AB21 IO_L8N_T1_13 (io), AB22 IO_L9N_T1_DQS_13 (io), R16 IO_L20P_T3_13 (io), T15 IO_L24P_T3_13 (io), T16 IO_L20N_T3_13 (io), T18 IO_L3P_T0_DQS_13 (io), T19 IO_0_13 (io), T20 IO_L6P_T0_13 (io), T21 IO_L1P_T0_13 (io), U15 IO_L24N_T3_13 (io), U16 IO_L19P_T3_13 (io), U17 IO_L5P_T0_13 (io), U18 IO_L3N_T0_DQS_13 (io), U20 IO_L6N_T0_VREF_13 (io), U21 IO_L1N_T0_13 (io), U22 IO_L2P_T0_13 (io), V14 IO_25_13 (io), V15 IO_L23P_T3_13 (io), V17 IO_L19N_T3_VREF_13 (io), V18 IO_L5N_T0_13 (io), V19 IO_L12P_T1_MRCC_13 (io), V20 IO_L11P_T1_SRCC_13 (io), V22 IO_L2N_T0_13 (io), W14 IO_L22P_T3_13 (io), W15 IO_L23N_T3_13 (io), W16 IO_L21P_T3_DQS_13 (io), W17 IO_L14P_T2_SRCC_13 (io), W19 IO_L12N_T1_MRCC_13 (io), W20 IO_L11N_T1_SRCC_13 (io), W21 IO_L4P_T0_13 (io), W22 IO_L4N_T0_13 (io), Y14 IO_L22N_T3_13 (io), Y16 IO_L21N_T3_DQS_13 (io), Y17 IO_L14N_T2_SRCC_13 (io), Y18 IO_L13P_T2_MRCC_13 (io), Y19 IO_L13N_T2_MRCC_13 (io), Y21 IO_L7P_T1_13 (io), Y22 IO_L7N_T1_13 (io)
part B pins: E21 IO_L7P_T1_D09_14 (io), E22 IO_L7N_T1_D10_14 (io), F19 IO_L2N_T0_D03_14 (io), F20 IO_L4N_T0_D05_14 (io), F21 IO_L9N_T1_DQS_D13_14 (io), G18 IO_L2P_T0_D02_14 (io), G20 IO_L4P_T0_D04_14 (io), G21 IO_L9P_T1_DQS_14 (io), G22 IO_L8N_T1_D12_14 (io), H18 IO_L1P_T0_D00_MOSI_14 (io), H19 IO_L1N_T0_D01_DIN_14 (io), H20 IO_L11N_T1_SRCC_14 (io), H22 IO_L8P_T1_D11_14 (io), J19 IO_L3N_T0_DQS_EMCCLK_14 (io), J20 IO_L11P_T1_SRCC_14 (io), J21 IO_L10P_T1_D14_14 (io), J22 IO_L10N_T1_D15_14 (io), K16 IO_0_14 (io), K17 IO_L6N_T0_D08_VREF_14 (io), K18 IO_L3P_T0_DQS_PUDC_B_14 (io), K19 IO_L5N_T0_D07_14 (io), K21 IO_L16P_T2_CSI_B_14 (io), K22 IO_L16N_T2_A15_D31_14 (io), L16 IO_L6P_T0_FCS_B_14 (io), L18 IO_L5P_T0_D06_14 (io), L19 IO_L12P_T1_MRCC_14 (io), L20 IO_L12N_T1_MRCC_14 (io), L21 IO_L18N_T2_A11_D27_14 (io), M16 IO_25_14 (io), M17 IO_L14P_T2_SRCC_14 (io), M18 IO_L14N_T2_SRCC_14 (io), M20 IO_L18P_T2_A12_D28_14 (io), M21 IO_L17N_T2_A13_D29_14 (io), M22 IO_L15N_T2_DQS_DOUT_CSO_B_14 (io), N17 IO_L23N_T3_A02_D18_14 (io), N18 IO_L13P_T2_MRCC_14 (io), N19 IO_L13N_T2_MRCC_14 (io), N20 IO_L17P_T2_A14_D30_14 (io), N22 IO_L15P_T2_DQS_RDWR_B_14 (io), P16 IO_L23P_T3_A03_D19_14 (io), P17 IO_L21N_T3_DQS_A06_D22_14 (io), P19 IO_L20P_T3_A08_D24_14 (io), P20 IO_L20N_T3_A07_D23_14 (io), P21 IO_L22P_T3_A05_D21_14 (io), P22 IO_L22N_T3_A04_D20_14 (io), R17 IO_L21P_T3_DQS_14 (io), R18 IO_L19P_T3_A10_D26_14 (io), R19 IO_L19N_T3_A09_D25_VREF_14 (io), R21 IO_L24P_T3_A01_D17_14 (io), R22 IO_L24N_T3_A00_D16_14 (io)
part C pins: A13 IO_L4P_T0_AD9P_15 (io), A14 IO_L4N_T0_AD9N_15 (io), A15 IO_L9N_T1_DQS_AD11N_15 (io), A16 IO_L8N_T1_AD3N_15 (io), A18 IO_L10N_T1_AD4N_15 (io), A19 IO_L20N_T3_A19_15 (io), A20 IO_L22P_T3_A17_15 (io), A21 IO_L22N_T3_A16_15 (io), B12 IO_L2N_T0_AD8N_15 (io), B13 IO_L5N_T0_AD2N_15 (io), B15 IO_L9P_T1_DQS_AD11P_15 (io), B16 IO_L8P_T1_AD3P_15 (io), B17 IO_L10P_T1_AD4P_15 (io), B18 IO_L20P_T3_A20_15 (io), B20 IO_L24P_T3_RS1_15 (io), B21 IO_L24N_T3_RS0_15 (io), B22 IO_L21N_T3_DQS_A18_15 (io), C12 IO_L2P_T0_AD8P_15 (io), C13 IO_L5P_T0_AD2P_15 (io), C14 IO_L7P_T1_AD10P_15 (io), C15 IO_L7N_T1_AD10N_15 (io), C17 IO_L12P_T1_MRCC_AD5P_15 (io), C18 IO_L12N_T1_MRCC_AD5N_15 (io), C19 IO_L19P_T3_A22_15 (io), C20 IO_L19N_T3_A21_VREF_15 (io), C22 IO_L21P_T3_DQS_15 (io), D12 IO_0_15 (io), D14 IO_L6N_T0_VREF_15 (io), D15 IO_L11P_T1_SRCC_AD12P_15 (io), D16 IO_L11N_T1_SRCC_AD12N_15 (io), D17 IO_L14N_T2_SRCC_15 (io), D19 IO_L18P_T2_A24_15 (io), D20 IO_L18N_T2_A23_15 (io), D21 IO_L23P_T3_FOE_B_15 (io), D22 IO_L23N_T3_FWE_B_15 (io), E14 IO_L6P_T0_15 (io), E16 IO_L14P_T2_SRCC_15 (io), E17 IO_L13P_T2_MRCC_15 (io), E18 IO_L13N_T2_MRCC_15 (io), E19 IO_L17N_T2_A25_15 (io), F15 IO_L3P_T0_DQS_AD1P_15 (io), F16 IO_L3N_T0_DQS_AD1N_15 (io), F18 IO_L17P_T2_A26_15 (io), G15 IO_L1P_T0_AD0P_15 (io), G16 IO_L1N_T0_AD0N_15 (io), G17 IO_L15N_T2_DQS_ADV_B_15 (io), H15 IO_25_15 (io), H17 IO_L15P_T2_DQS_15 (io), J16 IO_L16P_T2_A28_15 (io), J17 IO_L16N_T2_A27_15 (io)
part D pins: A8 IO_L21N_T3_DQS_16 (io), A9 IO_L21P_T3_DQS_16 (io), A10 IO_L23N_T3_16 (io), A11 IO_L23P_T3_16 (io), B8 IO_L22N_T3_16 (io), B10 IO_L20N_T3_16 (io), B11 IO_L20P_T3_16 (io), C8 IO_L22P_T3_16 (io), C9 IO_L19N_T3_VREF_16 (io), C10 IO_L7N_T1_16 (io), D9 IO_L19P_T3_16 (io), D10 IO_L7P_T1_16 (io), D11 IO_L12N_T1_MRCC_16 (io), E8 IO_24_T3_16 (io), E9 IO_L15N_T2_DQS_16 (io), E11 IO_L12P_T1_MRCC_16 (io), E12 IO_L10N_T1_16 (io), E13 IO_L10P_T1_16 (io), F8 IO_L17N_T2_16 (io), F9 IO_L15P_T2_DQS_16 (io), F10 IO_L11N_T1_SRCC_16 (io), F11 IO_L11P_T1_SRCC_16 (io), F13 IO_L8N_T1_16 (io), F14 IO_6_T0_VREF_16 (io), G8 IO_L17P_T2_16 (io), G10 IO_L13N_T2_MRCC_16 (io), G11 IO_L13P_T2_MRCC_16 (io), G12 IO_L14N_T2_SRCC_16 (io), G13 IO_L8P_T1_16 (io), H8 IO_L16N_T2_16 (io), H9 IO_L16P_T2_16 (io), H10 IO_18_T2_16 (io), H12 IO_L14P_T2_SRCC_16 (io), H13 IO_L9N_T1_DQS_16 (io), H14 IO_L9P_T1_DQS_16 (io)
part E pins: AA5 IO_L1P_T0_33 (io), AA6 IO_L3P_T0_DQS_33 (io), AA8 IO_L5N_T0_33 (io), AA9 IO_L5P_T0_33 (io), AA10 IO_L4P_T0_33 (io), AA11 IO_L20P_T3_33 (io), AA13 IO_L21N_T3_DQS_33 (io), AB5 IO_L1N_T0_33 (io), AB6 IO_L3N_T0_DQS_33 (io), AB7 IO_L2N_T0_33 (io), AB8 IO_L2P_T0_33 (io), AB10 IO_L4N_T0_33 (io), AB11 IO_L20N_T3_33 (io), AB12 IO_L22N_T3_33 (io), AB13 IO_L22P_T3_33 (io), R6 IO_L8N_T1_33 (io), R7 IO_L8P_T1_33 (io), T6 IO_0_VRN_33 (io), T8 IO_L18N_T2_33 (io), T9 IO_L18P_T2_33 (io), T10 IO_L16N_T2_33 (io), T11 IO_L16P_T2_33 (io), T13 IO_L24P_T3_33 (io), T14 IO_25_VRP_33 (io), U6 IO_L10N_T1_33 (io), U7 IO_L10P_T1_33 (io), U8 IO_L9P_T1_DQS_33 (io), U10 IO_L14P_T2_SRCC_33 (io), U11 IO_L17N_T2_33 (io), U12 IO_L17P_T2_33 (io), U13 IO_L24N_T3_33 (io), V7 IO_L11P_T1_SRCC_33 (io), V8 IO_L9N_T1_DQS_33 (io), V9 IO_L14N_T2_SRCC_33 (io), V10 IO_L15P_T2_DQS_33 (io), V12 IO_L23N_T3_33 (io), V13 IO_L23P_T3_33 (io), W6 IO_L7P_T1_33 (io), W7 IO_L11N_T1_SRCC_33 (io), W9 IO_L13P_T2_MRCC_33 (io), W10 IO_L15N_T2_DQS_33 (io), W11 IO_L6P_T0_33 (io), W12 IO_L19P_T3_33 (io), Y6 IO_L7N_T1_33 (io), Y7 IO_L12N_T1_MRCC_33 (io), Y8 IO_L12P_T1_MRCC_33 (io), Y9 IO_L13N_T2_MRCC_33 (io), Y11 IO_L6N_T0_VREF_33 (io), Y12 IO_L19N_T3_VREF_33 (io), Y13 IO_L21P_T3_DQS_33 (io)
part F pins: AA1 IO_L22P_T3_34 (io), AA3 IO_L23P_T3_34 (io), AA4 IO_L24P_T3_34 (io), AB1 IO_L22N_T3_34 (io), AB2 IO_L23N_T3_34 (io), AB3 IO_L24N_T3_34 (io), K1 IO_L2P_T0_34 (io), K2 IO_L4N_T0_34 (io), K3 IO_L4P_T0_34 (io), K4 IO_0_VRN_34 (io), L1 IO_L2N_T0_34 (io), L3 IO_L1P_T0_34 (io), L4 IO_L6N_T0_VREF_34 (io), L5 IO_L6P_T0_34 (io), M1 IO_L3N_T0_DQS_34 (io), M2 IO_L3P_T0_DQS_34 (io), M3 IO_L1N_T0_34 (io), M5 IO_L9P_T1_DQS_34 (io), N2 IO_L5N_T0_34 (io), N3 IO_L5P_T0_34 (io), N4 IO_L9N_T1_DQS_34 (io), N5 IO_L18P_T2_34 (io), P1 IO_L8P_T1_34 (io), P2 IO_L7P_T1_34 (io), P4 IO_L11P_T1_SRCC_34 (io), P5 IO_L18N_T2_34 (io), R1 IO_L8N_T1_34 (io), R2 IO_L7N_T1_34 (io), R3 IO_L12P_T1_MRCC_34 (io), R4 IO_L11N_T1_SRCC_34 (io), T1 IO_L10P_T1_34 (io), T3 IO_L12N_T1_MRCC_34 (io), T4 IO_L13P_T2_MRCC_34 (io), T5 IO_L16P_T2_34 (io), U1 IO_L10N_T1_34 (io), U2 IO_L15P_T2_DQS_34 (io), U3 IO_L13N_T2_MRCC_34 (io), U5 IO_L16N_T2_34 (io), V2 IO_L15N_T2_DQS_34 (io), V3 IO_L17P_T2_34 (io), V4 IO_L14P_T2_SRCC_34 (io), V5 IO_25_VRP_34 (io), W1 IO_L20P_T3_34 (io), W2 IO_L17N_T2_34 (io), W4 IO_L14N_T2_SRCC_34 (io), W5 IO_L19P_T3_34 (io), Y1 IO_L20N_T3_34 (io), Y2 IO_L21N_T3_DQS_34 (io), Y3 IO_L21P_T3_DQS_34 (io), Y4 IO_L19N_T3_VREF_34 (io)
part G pins: G7 CCLK_0 (io), H6 M1_0 (in), H7 M0_0 (in), J5 M2_0 (in), J6 TDO_0 (out), K6 TDI_0 (in), K7 TCK_0 (in), L6 TMS_0 (in), L7 INIT_B_0 (io), L11 VREFN_0 (in), L12 VP_0 (in), M6 PROGRAM_B_0 (in), M7 CFGBVS_0 (in), M11 VN_0 (in), M12 VREFP_0 (in), N11 DXN_0 (in), N12 DXP_0 (in), P6 DONE_0 (io)
part H pins: A3 MGTXTXN3_115 (out), A4 MGTXTXP3_115 (out), B1 MGTXTXN2_115 (out), B2 MGTXTXP2_115 (out), B5 MGTXRXN3_115 (in), B6 MGTXRXP3_115 (in), C3 MGTXRXN2_115 (in), C4 MGTXRXP2_115 (in), D1 MGTXTXN1_115 (out), D2 MGTXTXP1_115 (out), D5 MGTREFCLK0N_115 (in), D6 MGTREFCLK0P_115 (in), E3 MGTXRXN1_115 (in), E4 MGTXRXP1_115 (in), F1 MGTXTXN0_115 (out), F2 MGTXTXP0_115 (out), F5 MGTREFCLK1N_115 (in), F6 MGTREFCLK1P_115 (in), G3 MGTXRXN0_115 (in), G4 MGTXRXP0_115 (in), H1 MGTAVTTRCAL_115, H2 MGTRREF_115 (in)
part I pins: A2 MGTAVTT (power), A6 MGTAVCC (power), C2 MGTAVTT (power), C6 MGTAVCC (power), E2 MGTAVTT (power), E6 MGTAVCC (power), G2 MGTAVTT (power), G6 MGTAVCC (power), J4 MGTVCCAUX (power)
part J pins: A17 VCCO_15 (power), AA7 VCCO_33 (power), AA17 VCCO_13 (power), AB4 VCCO_34 (power), AB14 VCCO_13 (power), B14 VCCO_15 (power), C11 VCCO_16 (power), C21 VCCO_15 (power), D8 VCCO_16 (power), D18 VCCO_15 (power), E15 VCCO_15 (power), F12 VCCO_16 (power), F22 VCCO_14 (power), G9 VCCO_16 (power), G19 VCCO_14 (power), H16 VCCO_15 (power), J7 VCCO_0 (power), K20 VCCO_14 (power), L17 VCCO_14 (power), M4 VCCO_34 (power), N1 VCCO_34 (power), N7 VCCO_0 (power), N21 VCCO_14 (power), P18 VCCO_14 (power), R5 VCCO_34 (power), T2 VCCO_34 (power), T12 VCCO_33 (power), T22 VCCO_13 (power), U9 VCCO_33 (power), U19 VCCO_13 (power), V6 VCCO_33 (power), V16 VCCO_13 (power), W3 VCCO_34 (power), W13 VCCO_33 (power), Y10 VCCO_33 (power), Y20 VCCO_13 (power)
part K pins: J9 VCCINT (power), J11 VCCINT (power), J13 VCCINT (power), J15 VCCINT (power), K8 VCCINT (power), K10 VCCAUX (power), K12 VCCADC_0 (power), K14 VCCINT (power), L9 VCCINT (power), L13 VCCBRAM (power), L15 VCCINT (power), M8 VCCINT (power), M10 VCCAUX (power), M14 VCCINT (power), N9 VCCINT (power), N13 VCCBRAM (power), N15 VCCINT (power), P7 VCCBATT_0 (power), P8 VCCAUX (power), P10 VCCAUX (power), P12 VCCAUX (power), P14 VCCINT (power), R9 VCCAUX (power), R11 VCCAUX (power), R13 VCCBRAM (power), R15 VCCINT (power)
part L pins: A1 GND (power), A5 GND (power), A7 GND (power), A12 GND (power), A22 GND (power), AA2 GND (power), AA12 GND (power), AA22 GND (power), AB9 GND (power), AB19 GND (power), B3 GND (power), B4 GND (power), B7 GND (power), B9 GND (power), B19 GND (power), C1 GND (power), C5 GND (power), C7 GND (power), C16 GND (power), D3 GND (power), D4 GND (power), D7 GND (power), D13 GND (power), E1 GND (power), E5 GND (power), E7 GND (power), E10 GND (power), E20 GND (power), F3 GND (power), F4 GND (power), F7 GND (power), F17 GND (power), G1 GND (power), G5 GND (power), G14 GND (power), H3 GND (power), H4 GND (power), H5 GND (power), H11 GND (power), H21 GND (power), J1 GND (power), J2 GND (power), J3 GND (power), J8 GND (power), J10 GND (power), J12 GND (power), J14 GND (power), J18 GND (power), K5 GND (power), K9 GND (power), K11 GNDADC_0 (power), K13 GND (power), K15 GND (power), L2 GND (power), L8 GND (power), L10 GND (power), L14 GND (power), L22 GND (power), M9 GND (power), M13 GND (power), M15 GND (power), M19 GND (power), N6 GND (power), N8 GND (power), N10 GND (power), N14 GND (power), N16 GND (power), P3 GND (power), P9 GND (power), P11 GND (power), P13 GND (power), P15 GND (power), R8 GND (power), R10 GND (power), R12 GND (power), R14 GND (power), R20 GND (power), T7 GND (power), T17 GND (power), U4 GND (power), U14 GND (power), V1 GND (power), V11 GND (power), V21 GND (power), W8 GND (power), W18 GND (power), Y5 GND (power), Y15 GND (power)
part A text: BANK 13
part B text: BANK 14
part C text: BANK 15
part D text: BANK 16
part E text: BANK 33
part F text: BANK 34